# Altium footprint library RX_V0.PcbLib: 3 footprints
Each footprint in its own frame and in the unit in brackets; x right, y up, seen from the top. Pads: shape width x height; smd on the part's side, far side on the other; paste and mask are expansions set on the pad; w line width, h text height; cw(c..) or ccw(c..) is an arc to the next point about the centre after c.
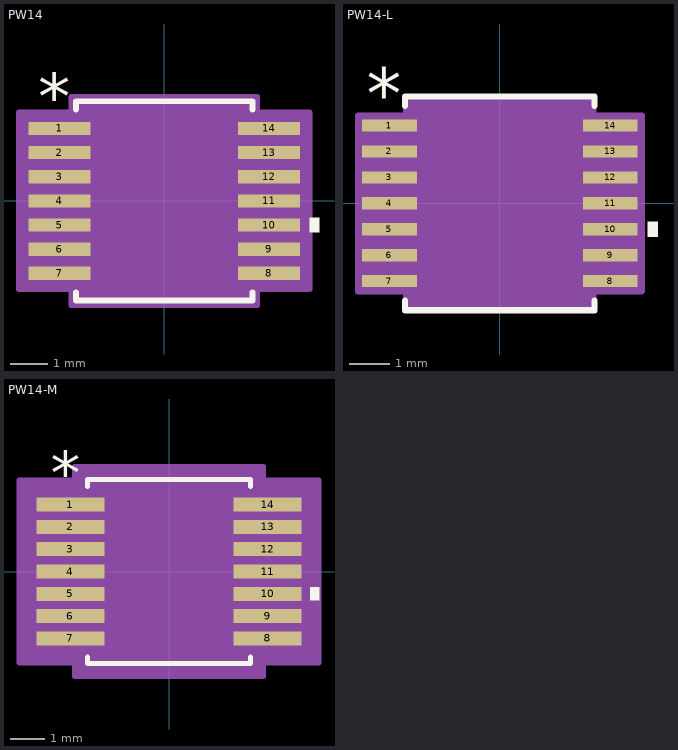
[diagram p0: the footprints below, top view; thin cyan lines are the x and y axes]

## PW14 [mil]
pads (14):
  rect 66x14 smd paste+0 mask+0: 1(-111,76.77) 2(-111,51.18) 3(-111,25.59) 4(-111,0) 5(-111,-25.59) 6(-111,-51.18) 7(-111,-76.77) 8(111,-76.77) 9(111,-51.18) 10(111,-25.59) 11(111,0) 12(111,25.59) 13(111,51.18) 14(111,76.77)
Top Overlay:
  region: 154,-18.09 164,-18.09 164,-33.09 154,-33.09
  lines w6: -93.5,-96.87 -93.5,-105.5 93.5,-105.5 93.5,-96.87 ; -93.5,96.87 -93.5,105.5 93.5,105.5 93.5,96.87
  text "*" at -133.5,85.77 h50
Mechanical 13:
  lines w0: -12,100.5 ccw(c0,100.5) 12,100.5
  lines w1: -130,-82.77 -130,-70.77 -88.5,-70.77 -88.5,-82.77 -130,-82.77 ; -130,-57.18 -130,-45.18 -88.5,-45.18 -88.5,-57.18 -130,-57.18 ; -130,-31.59 -130,-19.59 -88.5,-19.59 -88.5,-31.59 -130,-31.59 ; -130,-6 -130,6 -88.5,6 -88.5,-6 -130,-6 ; -130,19.59 -130,31.59 -88.5,31.59 -88.5,19.59 -130,19.59 ; -130,45.18 -130,57.18 -88.5,57.18 -88.5,45.18 -130,45.18 ; -130,70.77 -130,82.77 -88.5,82.77 -88.5,70.77 -130,70.77 ; -88.5,-100.5 88.5,-100.5 88.5,100.5 -88.5,100.5 -88.5,-100.5 ; 88.5,-82.77 88.5,-70.77 130,-70.77 130,-82.77 88.5,-82.77 ; 88.5,-57.18 88.5,-45.18 130,-45.18 130,-57.18 88.5,-57.18 ; 88.5,-31.59 88.5,-19.59 130,-19.59 130,-31.59 88.5,-31.59 ; 88.5,-6 88.5,6 130,6 130,-6 88.5,-6 ; 88.5,19.59 88.5,31.59 130,31.59 130,19.59 88.5,19.59 ; 88.5,45.18 88.5,57.18 130,57.18 130,45.18 88.5,45.18 ; 88.5,70.77 88.5,82.77 130,82.77 130,70.77 88.5,70.77
  text "*" at -86,47.5 h50
Mechanical 15:
  region: -98.5,-93.77 -154,-93.77 -154,93.77 -98.5,93.77 -98.5,110.5 98.5,110.5 98.5,93.77 154,93.77 154,-93.77 98.5,-93.77 98.5,-110.5 -98.5,-110.5
  lines w6: -154,-93.77 -154,93.77 -98.5,93.77 -98.5,110.5 98.5,110.5 98.5,93.77 154,93.77 154,-93.77 98.5,-93.77 98.5,-110.5 -98.5,-110.5 -98.5,-93.77 -154,-93.77
3D body: height 10, standoff 0, extent 0,0 10,10

## PW14-L [mil]
pads (14):
  rect 54x12 smd paste+0 mask+0: 1(-109,76.77) 2(-109,51.18) 3(-109,25.59) 4(-109,0) 5(-109,-25.59) 6(-109,-51.18) 7(-109,-76.77) 8(109,-76.77) 9(109,-51.18) 10(109,-25.59) 11(109,0) 12(109,25.59) 13(109,51.18) 14(109,76.77)
Top Overlay:
  region: 146,-18.09 156,-18.09 156,-33.09 146,-33.09
  lines w6: -93.5,-95.87 -93.5,-105.5 93.5,-105.5 93.5,-95.87 ; -93.5,95.87 -93.5,105.5 93.5,105.5 93.5,95.87
  text "*" at -131.5,83.77 h50
Mechanical 13:
  lines w0: -12,100.5 ccw(c0,100.5) 12,100.5
  lines w1: -130,-82.77 -130,-70.77 -88.5,-70.77 -88.5,-82.77 -130,-82.77 ; -130,-57.18 -130,-45.18 -88.5,-45.18 -88.5,-57.18 -130,-57.18 ; -130,-31.59 -130,-19.59 -88.5,-19.59 -88.5,-31.59 -130,-31.59 ; -130,-6 -130,6 -88.5,6 -88.5,-6 -130,-6 ; -130,19.59 -130,31.59 -88.5,31.59 -88.5,19.59 -130,19.59 ; -130,45.18 -130,57.18 -88.5,57.18 -88.5,45.18 -130,45.18 ; -130,70.77 -130,82.77 -88.5,82.77 -88.5,70.77 -130,70.77 ; -88.5,-100.5 88.5,-100.5 88.5,100.5 -88.5,100.5 -88.5,-100.5 ; 88.5,-82.77 88.5,-70.77 130,-70.77 130,-82.77 88.5,-82.77 ; 88.5,-57.18 88.5,-45.18 130,-45.18 130,-57.18 88.5,-57.18 ; 88.5,-31.59 88.5,-19.59 130,-19.59 130,-31.59 88.5,-31.59 ; 88.5,-6 88.5,6 130,6 130,-6 88.5,-6 ; 88.5,19.59 88.5,31.59 130,31.59 130,19.59 88.5,19.59 ; 88.5,45.18 88.5,57.18 130,57.18 130,45.18 88.5,45.18 ; 88.5,70.77 88.5,82.77 130,82.77 130,70.77 88.5,70.77
  text "*" at -86,47.5 h50
Mechanical 15:
  region: -92.5,-86.77 -140,-86.77 -140,86.77 -92.5,86.77 -92.5,104.5 92.5,104.5 92.5,86.77 140,86.77 140,-86.77 92.5,-86.77 92.5,-104.5 -92.5,-104.5
  lines w6: -140,-86.77 -140,86.77 -92.5,86.77 -92.5,104.5 92.5,104.5 92.5,86.77 140,86.77 140,-86.77 92.5,-86.77 92.5,-104.5 -92.5,-104.5 -92.5,-86.77 -140,-86.77
3D body: height 10, standoff 0, extent 0,0 10,10

## PW14-M [mil]
pads (14):
  rect 78x16 smd paste+0 mask+0: 1(-113,76.77) 2(-113,51.18) 3(-113,25.59) 4(-113,0) 5(-113,-25.59) 6(-113,-51.18) 7(-113,-76.77) 8(113,-76.77) 9(113,-51.18) 10(113,-25.59) 11(113,0) 12(113,25.59) 13(113,51.18) 14(113,76.77)
Top Overlay:
  region: 162,-18.09 172,-18.09 172,-33.09 162,-33.09
  lines w6: -93.5,-97.87 -93.5,-105.5 93.5,-105.5 93.5,-97.87 ; -93.5,97.87 -93.5,105.5 93.5,105.5 93.5,97.87
  text "*" at -135.5,87.77 h50
Mechanical 13:
  lines w0: -12,100.5 ccw(c0,100.5) 12,100.5
  lines w1: -130,-82.77 -130,-70.77 -88.5,-70.77 -88.5,-82.77 -130,-82.77 ; -130,-57.18 -130,-45.18 -88.5,-45.18 -88.5,-57.18 -130,-57.18 ; -130,-31.59 -130,-19.59 -88.5,-19.59 -88.5,-31.59 -130,-31.59 ; -130,-6 -130,6 -88.5,6 -88.5,-6 -130,-6 ; -130,19.59 -130,31.59 -88.5,31.59 -88.5,19.59 -130,19.59 ; -130,45.18 -130,57.18 -88.5,57.18 -88.5,45.18 -130,45.18 ; -130,70.77 -130,82.77 -88.5,82.77 -88.5,70.77 -130,70.77 ; -88.5,-100.5 88.5,-100.5 88.5,100.5 -88.5,100.5 -88.5,-100.5 ; 88.5,-82.77 88.5,-70.77 130,-70.77 130,-82.77 88.5,-82.77 ; 88.5,-57.18 88.5,-45.18 130,-45.18 130,-57.18 88.5,-57.18 ; 88.5,-31.59 88.5,-19.59 130,-19.59 130,-31.59 88.5,-31.59 ; 88.5,-6 88.5,6 130,6 130,-6 88.5,-6 ; 88.5,19.59 88.5,31.59 130,31.59 130,19.59 88.5,19.59 ; 88.5,45.18 88.5,57.18 130,57.18 130,45.18 88.5,45.18 ; 88.5,70.77 88.5,82.77 130,82.77 130,70.77 88.5,70.77
  text "*" at -86,47.5 h50
Mechanical 15:
  region: -108.5,-104.77 -172,-104.77 -172,104.77 -108.5,104.77 -108.5,120.5 108.5,120.5 108.5,104.77 172,104.77 172,-104.77 108.5,-104.77 108.5,-120.5 -108.5,-120.5
  lines w6: -172,-104.77 -172,104.77 -108.5,104.77 -108.5,120.5 108.5,120.5 108.5,104.77 172,104.77 172,-104.77 108.5,-104.77 108.5,-120.5 -108.5,-120.5 -108.5,-104.77 -172,-104.77
3D body: height 10, standoff 0, extent 0,0 10,10